# Altium schematic symbol library CONN_FPC.SchLib: 14 symbols
Pins are listed as number, name and electrical type; pins without a type are passive.

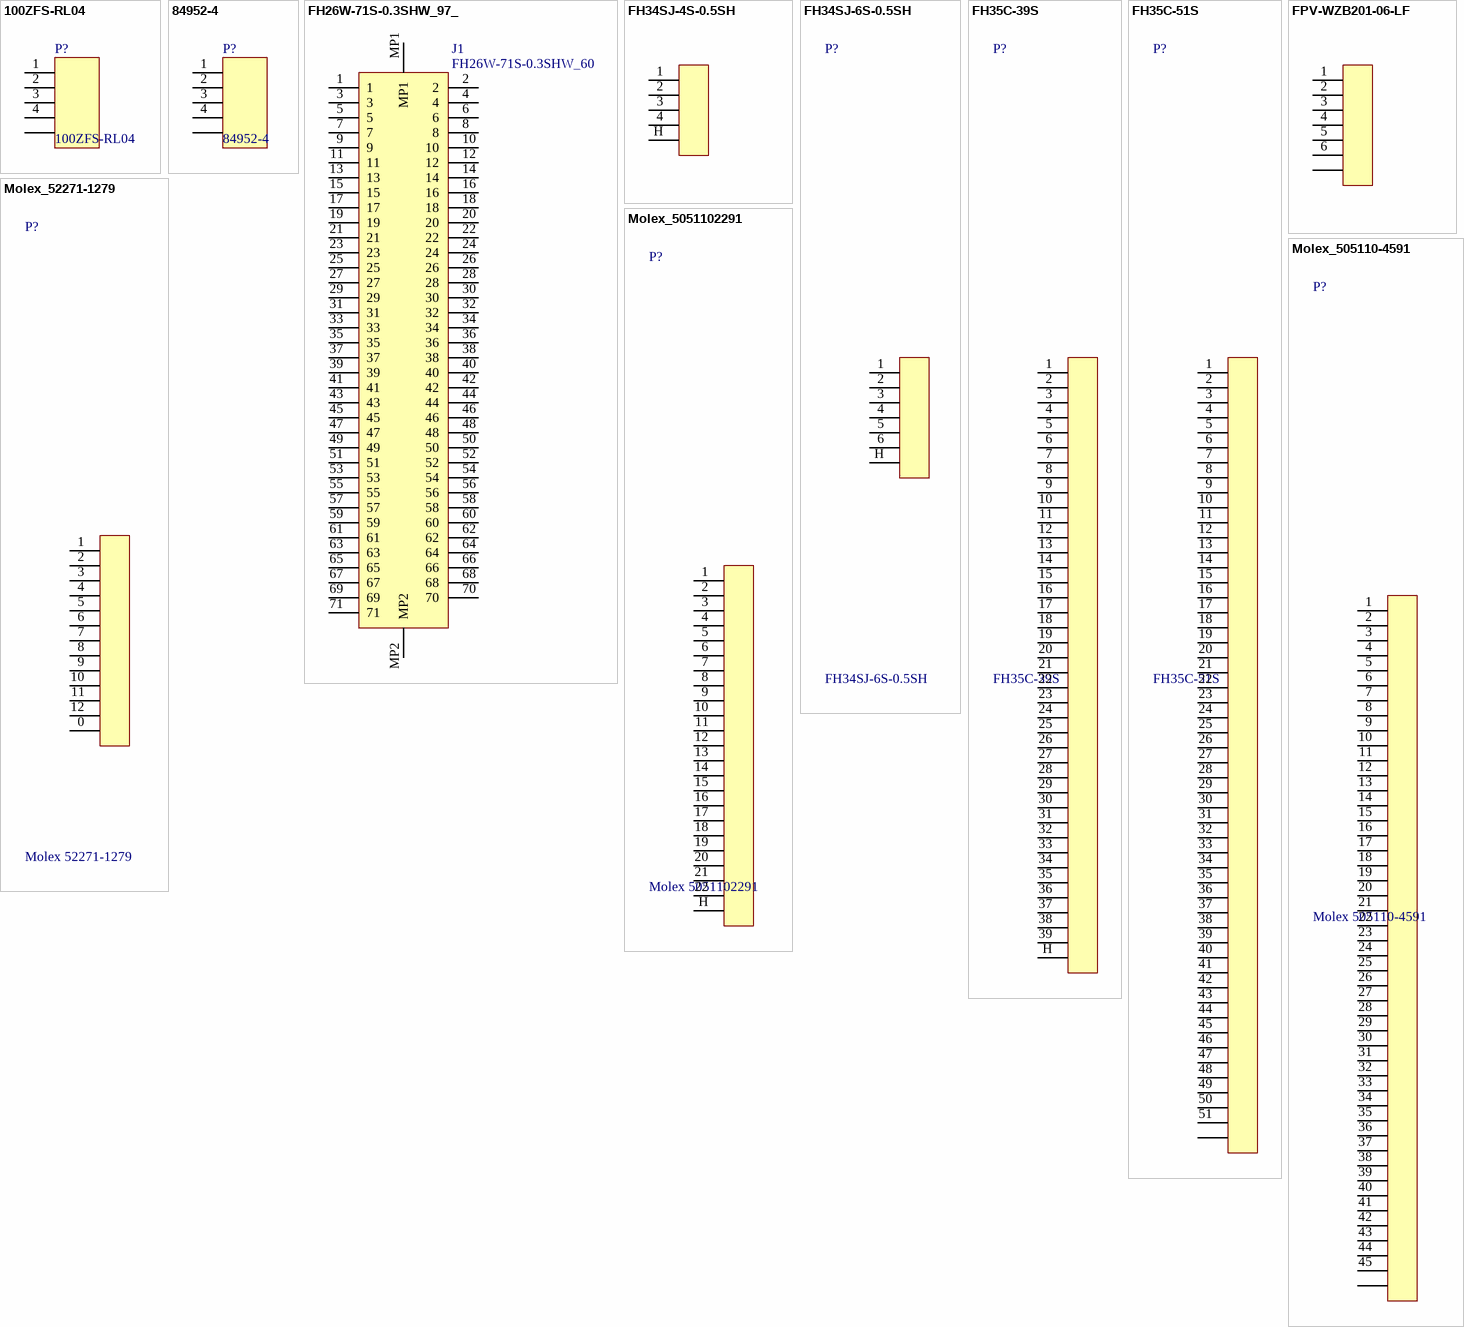
[diagram p0: symbols 100ZFS-RL04 to Molex_5051102291]

## 100ZFS-RL04
designator P?
FPC connector; Supplier: http://www.rct.ru/catalog/flat-cabel-connector/050zfs-ru50-1.html
footprint 100ZFS-RL04-2
pins: 0 H, 1, 2, 3, 4

## 84952-4
designator P?
FPC connector; Supplier: http://www.compel.ru/infosheet/TE/84952-4; Datasheet: http://www.te.com/usa-en/product-84952-4.html; Price(1): 0.7266; Price(100): 0.4844
footprint 84952-4
pins: 0 MH, 1, 2, 3, 4

## FH26W-71S-0.3SHW_97_
designator J1, comment FH26W-71S-0.3SHW_60
Connector; Manufacturer_Name: Hirose; Manufacturer_Part_Number: FH26W-71S-0.3SHW(97); Datasheet Link: https://componentsearchengine.com/Datasheets/2/FH26W-71S-0.3SHW(97).pdf; Height: 1mm; Mouser Part Number: 798-FH26W71S03SHW97; Mouser Price/Stock: https://www.mouser.com/Search/Refine.aspx?Keyword=798-FH26W71S03SHW97
footprint FH26W-71S-0.3SHW
pins: 1, 2, 3, 4, 5, 6, 7, 8, 9, 10, 11, 12, 13, 14, 15, 16, 17, 18, 19, 20, 21, 22, 23, 24, 25, 26, 27, 28, 29, 30, 31, 32, 33, 34, 35, 36, 37, 38, 39, 40, 41, 42, 43, 44, 45, 46, 47, 48, 49, 50, 51, 52, 53, 54, 55, 56, 57, 58, 59, 60, 61, 62, 63, 64, 65, 66, 67, 68, 69, 70, 71, MP1, MP2

## FH34SJ-4S-0.5SH
designator P?
0.5mm Pitch, Back-Flip actuator FPC & FFC ZIF Connectors
footprint FH34SJ-4S-0.5SH
pins: 1, 2, 3, 4, H

## FH34SJ-6S-0.5SH
designator P?
0.5mm Pitch, Back-Flip actuator FPC & FFC ZIF Connectors
footprint FH34SJ-6S-0.5SH
pins: 1, 2, 3, 4, 5, 6, H

## FH35C-39S
designator P?
0.3mm pitch, 0.9mm height, back flip 2-sided FPC connector
footprint FH35C-39S
pins: 1, 2, 3, 4, 5, 6, 7, 8, 9, 10, 11, 12, 13, 14, 15, 16, 17, 18, 19, 20, 21, 22, 23, 24, 25, 26, 27, 28, 29, 30, 31, 32, 33, 34, 35, 36, 37, 38, 39, H

## FH35C-51S
designator P?
0.3mm pitch, 0.9mm height, back flip 2-sided FPC connector; HelpURL: https://www.hirose.com/product/en/products/FH35C/FH35C-51S-0.3SHW%2850%29/
footprint FH35C-51S (Hirose FPC)
pins: 0 H, 1, 2, 3, 4, 5, 6, 7, 8, 9, 10, 11, 12, 13, 14, 15, 16, 17, 18, 19, 20, 21, 22, 23, 24, 25, 26, 27, 28, 29, 30, 31, 32, 33, 34, 35, 36, 37, 38, 39, 40, 41, 42, 43, 44, 45, 46, 47, 48, 49, 50, 51

## FPV-WZB201-06-LF
designator P?
Name: FPV-WZB201-06-LF
footprint FPV-WZB201-06-LF (FPC connector 0.5mm 6pin)
pins: 0 CASE, 1, 2, 3, 4, 5, 6

## Molex_52271-1279
designator P?, comment Molex 52271-1279
Easy-On FFC/FPC Connector, 1.00mm Pitch, Slider Series, Right-Angle, Bottom Contact, 3.00mm Height, 12 Circuits, Tin-Bismuth Plating; Supplier: http://www.digikey.com/product-detail/en/molex-llc/5051102291/WM11288CT-ND/5313425; HelpURL: http://www.molex.com/pdm_docs/sd/5051102291_sd.pdf
footprint 522711279 (Easy-On™ Type FFC/FPC Connector, Right-Angle, Surface Mount, ZIF, Bottom Contact Style, 12 Circuits, High Barrier Packaging)
pins: 0, 1, 2, 3, 4, 5, 6, 7, 8, 9, 10, 11, 12

## Molex_505110-4591
designator P?, comment Molex 505110-4591
45 Position FFC, Bottom 0.5mm Surface Mount, Right Angle; Supplier: https://www.terraelectronica.ru/product/2187694; HelpURL: https://www.molex.com/pdm_docs/sd/5051104591_sd.pdf
footprint 5051104591 (45 Position FFC, FPC Connector Contacts, Bottom 0.020" (0.50mm) Surface Mount, Right Angle)
pins: 1, 2, 3, 4, 5, 6, 7, 8, 9, 10, 11, 12, 13, 14, 15, 16, 17, 18, 19, 20, 21, 22, 23, 24, 25, 26, 27, 28, 29, 30, 31, 32, 33, 34, 35, 36, 37, 38, 39, 40, 41, 42, 43, 44, 45, H

## Molex_5051102291
designator P?, comment Molex 5051102291
22 Position FFC, FPC Connector Contacts, Bottom 0.020" (0.50mm) Surface Mount, Right Angle; Supplier: http://www.digikey.com/product-detail/en/molex-llc/5051102291/WM11288CT-ND/5313425; HelpURL: http://www.molex.com/pdm_docs/sd/5051102291_sd.pdf
pins: 1, 2, 3, 4, 5, 6, 7, 8, 9, 10, 11, 12, 13, 14, 15, 16, 17, 18, 19, 20, 21, 22, H

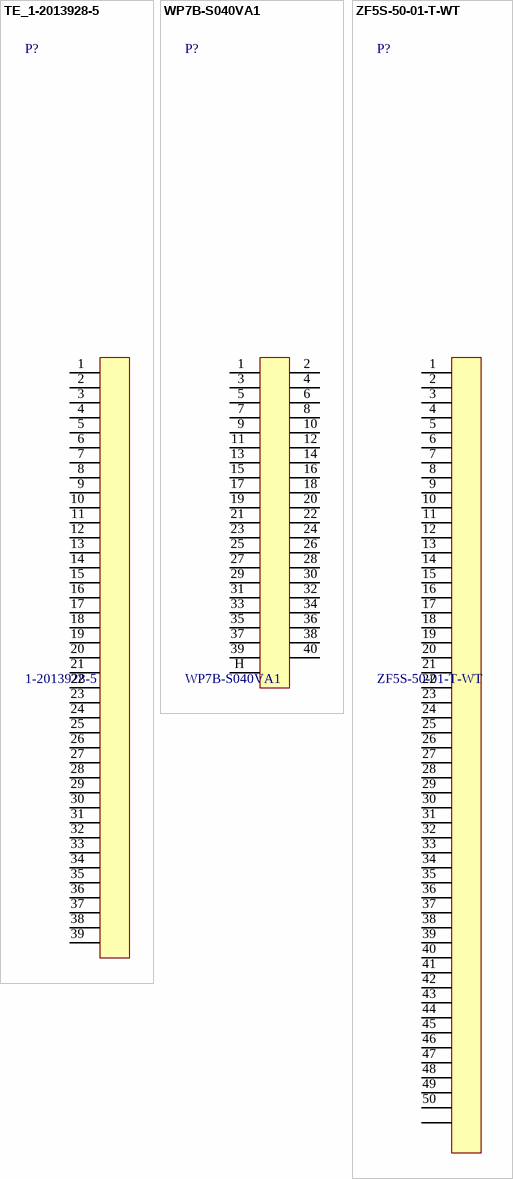
[diagram p1: symbols TE_1-2013928-5 to ZF5S-50-01-T-WT]

## TE_1-2013928-5
designator P?, comment 1-2013928-5
0.3mm pitch, 0.9mm height, back flip 2-sided FPC connector; HelpURL: http://www.te.com/commerce/DocumentDelivery/DDEController?Action=srchrtrv&DocNm=2013928&DocType=Customer+Drawing&DocLang=English; Supplier: https://www.digikey.com/product-detail/en/te-connectivity-amp-connectors/1-2013928-5/A108791CT-ND/4031423
footprint 1-2013928-5 (CONN FPC TOP 39POS 0.30MM R/A)
pins: 1, 2, 3, 4, 5, 6, 7, 8, 9, 10, 11, 12, 13, 14, 15, 16, 17, 18, 19, 20, 21, 22, 23, 24, 25, 26, 27, 28, 29, 30, 31, 32, 33, 34, 35, 36, 37, 38, 39

## WP7B-S040VA1
designator P?
HelpURL: http://jae-connectors.com/en/pdf/SJ111881.pdf
footprint WP7B-S040VA1
pins: 1, 2, 3, 4, 5, 6, 7, 8, 9, 10, 11, 12, 13, 14, 15, 16, 17, 18, 19, 20, 21, 22, 23, 24, 25, 26, 27, 28, 29, 30, 31, 32, 33, 34, 35, 36, 37, 38, 39, 40, H

## ZF5S-50-01-T-WT
designator P?
0.3mm pitch, 0.9mm height, back flip 2-sided FPC connector; HelpURL: http://suddendocs.samtec.com/prints/zf5s-xx-xx-xx-wt-xx-footprint.pdf; Supplier: https://www.digikey.com/product-detail/en/samtec-inc/ZF5S-50-01-T-WT/SAM10392-ND/6679129
footprint ZF5S-50-01-T-WT
pins: 0 H, 1, 2, 3, 4, 5, 6, 7, 8, 9, 10, 11, 12, 13, 14, 15, 16, 17, 18, 19, 20, 21, 22, 23, 24, 25, 26, 27, 28, 29, 30, 31, 32, 33, 34, 35, 36, 37, 38, 39, 40, 41, 42, 43, 44, 45, 46, 47, 48, 49, 50